# Altium schematic symbol library Sch_NXP_Semiconductors.SchLib: 1 symbol
Pins are listed as number, name and electrical type; pins without a type are passive.

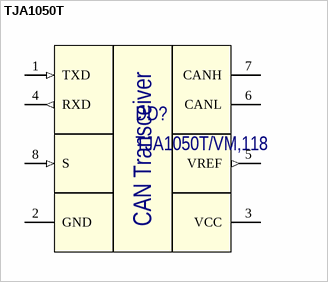
[diagram p0: symbol TJA1050T]

## TJA1050T
designator DD?, comment TJA1050T/VM,118
High speed CAN transceiver; Manufacturer: NXP Semiconductors; Part Number: TJA1050T/VM,118
footprint SOIC-8 (SOIC-8 package)
pins: 1 TXD (in), 2 GND (power), 3 VCC (power), 4 RXD (out), 5 VREF (out), 6 CANL, 7 CANH, 8 S (in)
text: CAN Transceiver